# EAGLE library part M2106 (library 000001)
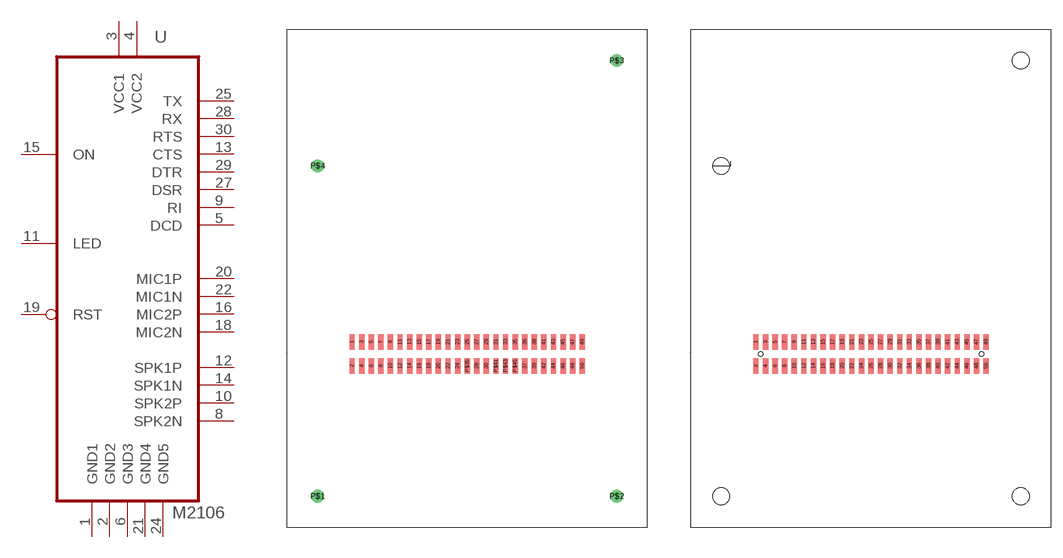
[diagram p54: symbol with the pads of WAVWC_1; footprints WAVWC_1, WAVWC_1_PCB]

Designator prefix -

## M2106  [WAVWC_1]
1  GND1  pwr
2  GND2  pwr
3  VCC1  pwr
4  VCC2  pwr
5  DCD  out
6  GND3  pwr
8  SPK2N
9  RI  out
10  SPK2P
11  LED  out
12  SPK1P
13  CTS  out
14  SPK1N
15  ON
16  MIC2P
18  MIC2N
19  RST
20  MIC1P
21  GND4  pwr
22  MIC1N
24  GND5  pwr
25  TX  in
27  DSR  out
28  RX  out
29  DTR  in
30  RTS  in

## M2106PCB  [WAVWC_1_PCB]
Pads as for WAVWC_1

## Footprint WAVWC_1 (pad centres in mm)
smd 0.711 x 2.032: 1 -15.24,1.587; 2 -15.24,-1.587; 3 -13.97,1.587; 4 -13.97,-1.587; 5 -12.7,1.587; 6 -12.7,-1.587; 7 -11.43,1.587; 8 -11.43,-1.587; 9 -10.16,1.587; 10 -10.16,-1.587; 11 -8.89,1.587; 12 -8.89,-1.587; 13 -7.62,1.587; 14 -7.62,-1.587; 15 -6.35,1.587; 16 -6.35,-1.587; 17 -5.08,1.587; 18 -5.08,-1.587; 19 -3.81,1.587; 20 -3.81,-1.587; 21 -2.54,1.587; 22 -2.54,-1.587; 23 -1.27,1.587; 24 -1.27,-1.587; 25 0,1.587; 27 1.27,1.587; 28 1.27,-1.587; 29 2.54,1.587; 30 2.54,-1.587; 31 3.81,1.587; 33 5.08,1.587; 35 6.35,1.587; 36 7.62,1.587; 37 7.62,-1.587; 38 8.89,1.587; 39 8.89,-1.587; 41 10.16,1.587; 42 10.16,-1.587; 43 11.43,1.587; 44 11.43,-1.587; 45 12.7,1.587; 46 12.7,-1.587; 47 13.97,1.587; 48 13.97,-1.587; 49 15.24,1.587; 50 15.24,-1.587; P$35 0,-1.587; P$41 3.81,-1.587; P$43 5.08,-1.587; P$45 6.35,-1.587
drill 0.5 pad 1.676 round: P$1 -19.799,-18.847; P$2 19.799,-18.847; P$3 19.799,38.811; P$4 -19.799,24.879

## Footprint WAVWC_1_PCB (pad centres in mm)
smd 0.711 x 2.032: 1 -15.24,1.587; 2 -15.24,-1.587; 3 -13.97,1.587; 4 -13.97,-1.587; 5 -12.7,1.587; 6 -12.7,-1.587; 7 -11.43,1.587; 8 -11.43,-1.587; 9 -10.16,1.587; 10 -10.16,-1.587; 11 -8.89,1.587; 12 -8.89,-1.587; 13 -7.62,1.587; 14 -7.62,-1.587; 15 -6.35,1.587; 16 -6.35,-1.587; 17 -5.08,1.587; 18 -5.08,-1.587; 19 -3.81,1.587; 20 -3.81,-1.587; 21 -2.54,1.587; 22 -2.54,-1.587; 23 -1.27,1.587; 24 -1.27,-1.587; 25 0,1.587; 26 0,-1.587; 27 1.27,1.587; 28 1.27,-1.587; 29 2.54,1.587; 30 2.54,-1.587; 31 3.81,1.587; 32 3.81,-1.587; 33 5.08,1.587; 34 5.08,-1.587; 35 6.35,1.587; 36 6.35,-1.587; 37 7.62,1.587; 38 7.62,-1.587; 39 8.89,1.587; 40 8.89,-1.587; 41 10.16,1.587; 42 10.16,-1.587; 43 11.43,1.587; 44 11.43,-1.587; 45 12.7,1.587; 46 12.7,-1.587; 47 13.97,1.587; 48 13.97,-1.587; 49 15.24,1.587; 50 15.24,-1.587
hole 2.2 at -19.825,24.878
hole 2.2 at 19.825,38.81
hole 2.2 at 19.825,-18.848
hole 2.2 at -19.825,-18.848
hole 0.6 at -14.605,0
hole 0.6 at 14.605,0